# Altium schematic symbol library level_shifter.SchLib: 3 symbols
Pins are listed as number, name and electrical type; pins without a type are passive.

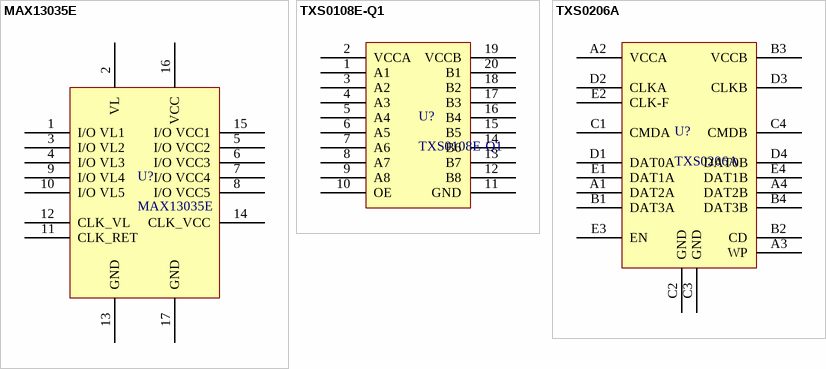
[diagram p0: symbols MAX13035E to TXS0206A]

## MAX13035E
designator U?
6-Channel High-Speed Logic-Level Translators; Supplier 1: Digi-Key; Supplier Part Number 1: MAX13035EETE+-ND
footprint TQFN-16 (QFN, 16-Leads, Body 4.00x4.00mm, Pitch 0.65mm, Thermal Pad 2.10x2.10mm, IPC Medium Density)
pins: 1 I/O VL1, 2 VL, 3 I/O VL2, 4 I/O VL3, 5 I/O VCC2, 6 I/O VCC3, 7 I/O VCC4, 8 I/O VCC5, 9 I/O VL4, 10 I/O VL5, 11 CLK_RET, 12 CLK_VL, 13 GND, 14 CLK_VCC, 15 I/O VCC1, 16 VCC, 17 GND

## TXS0108E-Q1
designator U?
TXS0108E-Q1 8-Bit Bi-directional, Level-Shifting, Voltage Translator  for Open-Drain and Push-Pull Applications; Supplier 1: Digi-Key; Supplier Part Number 1: 296-42401-1-ND
footprint TSSOP-20 (TSOP, 20-Leads, Body 6.50x4.40mm, Pitch 0.65mm, IPC Medium Density)
pins: 1 A1, 2 VCCA, 3 A2, 4 A3, 5 A4, 6 A5, 7 A6, 8 A7, 9 A8, 10 OE, 11 GND, 12 B8, 13 B7, 14 B6, 15 B5, 16 B4, 17 B3, 18 B2, 19 VCCB, 20 B1

## TXS0206A
designator U?
SD CARD VOLTAGE-TRANSLATION TRANSCEIVER; Supplier 1: Digi-Key; Supplier Part Number 1: 296-36872-1-ND
footprint BGA20C40P4X5_156X196X50 (BGA, 20-Leads, Body 1.56x1.96mmx0.50mm, Pitch 0.40mm)
pins: A1 DAT2A, A2 VCCA, A3 WP, A4 DAT2B, B1 DAT3A, B2 CD, B3 VCCB, B4 DAT3B, C1 CMDA, C2 GND, C3 GND, C4 CMDB, D1 DAT0A, D2 CLKA, D3 CLKB, D4 DAT0B, E1 DAT1A, E2 CLK-F, E3 EN, E4 DAT1B